# EAGLE library part IC-TTL-74-573 (library mylib)
(Device name) : (Main function of the device) Packages : (Variant name1) : (Pitch) x (Pin) x (Width) (Variant name2) : (Pitch) x (Pin) x (Width) (Variant name3) : (Pitch) x (Pin) x (Width) ...
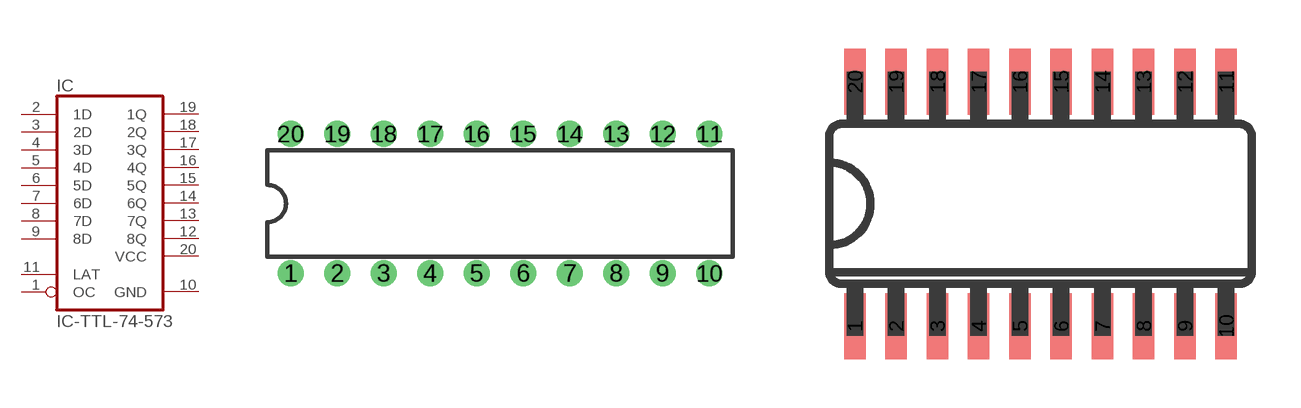
[diagram p73: symbol with the pads of IC-SOCKET-DIL-20-300MIL; footprints IC-SOCKET-DIL-20-300MIL, IC-20-1.27-300MIL]

Designator prefix IC

## IC-TTL-74-573-DIP  [IC-SOCKET-DIL-20-300MIL]
1  OC  in
2  1D  in
3  2D  in
4  3D  in
5  4D  in
6  5D  in
7  6D  in
8  7D  in
9  8D  in
10  GND  pwr
11  LAT  in
12  8Q  hiz
13  7Q  hiz
14  6Q  hiz
15  5Q  hiz
16  4Q  hiz
17  3Q  hiz
18  2Q  hiz
19  1Q  hiz
20  VCC  pwr

## IC-TTL-74-573-FLAT  [IC-20-1.27-300MIL]
Pads as for IC-SOCKET-DIL-20-300MIL

## Footprint IC-SOCKET-DIL-20-300MIL (pad centres in mm)
drill 0.889: 1 -11.43,-3.81; 2 -8.89,-3.81; 3 -6.35,-3.81; 4 -3.81,-3.81; 5 -1.27,-3.81; 6 1.27,-3.81; 7 3.81,-3.81; 8 6.35,-3.81; 9 8.89,-3.81; 10 11.43,-3.81; 11 11.43,3.81; 12 8.89,3.81; 13 6.35,3.81; 14 3.81,3.81; 15 1.27,3.81; 16 -1.27,3.81; 17 -3.81,3.81; 18 -6.35,3.81; 19 -8.89,3.81; 20 -11.43,3.81

## Footprint IC-20-1.27-300MIL (pad centres in mm)
Small Outline Package
smd 0.66 x 2.032: 1 -6.35,-3.759; 2 -5.08,-3.759; 3 -3.81,-3.759; 4 -2.54,-3.759; 5 -1.27,-3.759; 6 0,-3.759; 7 1.27,-3.759; 8 2.54,-3.759; 9 3.81,-3.759; 10 5.08,-3.759; 11 5.08,3.759; 12 3.81,3.759; 13 2.54,3.759; 14 1.27,3.759; 15 0,3.759; 16 -1.27,3.759; 17 -2.54,3.759; 18 -3.81,3.759; 19 -5.08,3.759; 20 -6.35,3.759